# Altium footprint library DC_DC_Converter.PcbLib: 15 footprints
Each footprint in its own frame and in the unit in brackets; x right, y up, seen from the top. Pads: shape width x height; smd on the part's side, far side on the other; paste and mask are expansions set on the pad; w line width, h text height; cw(c..) or ccw(c..) is an arc to the next point about the centre after c.
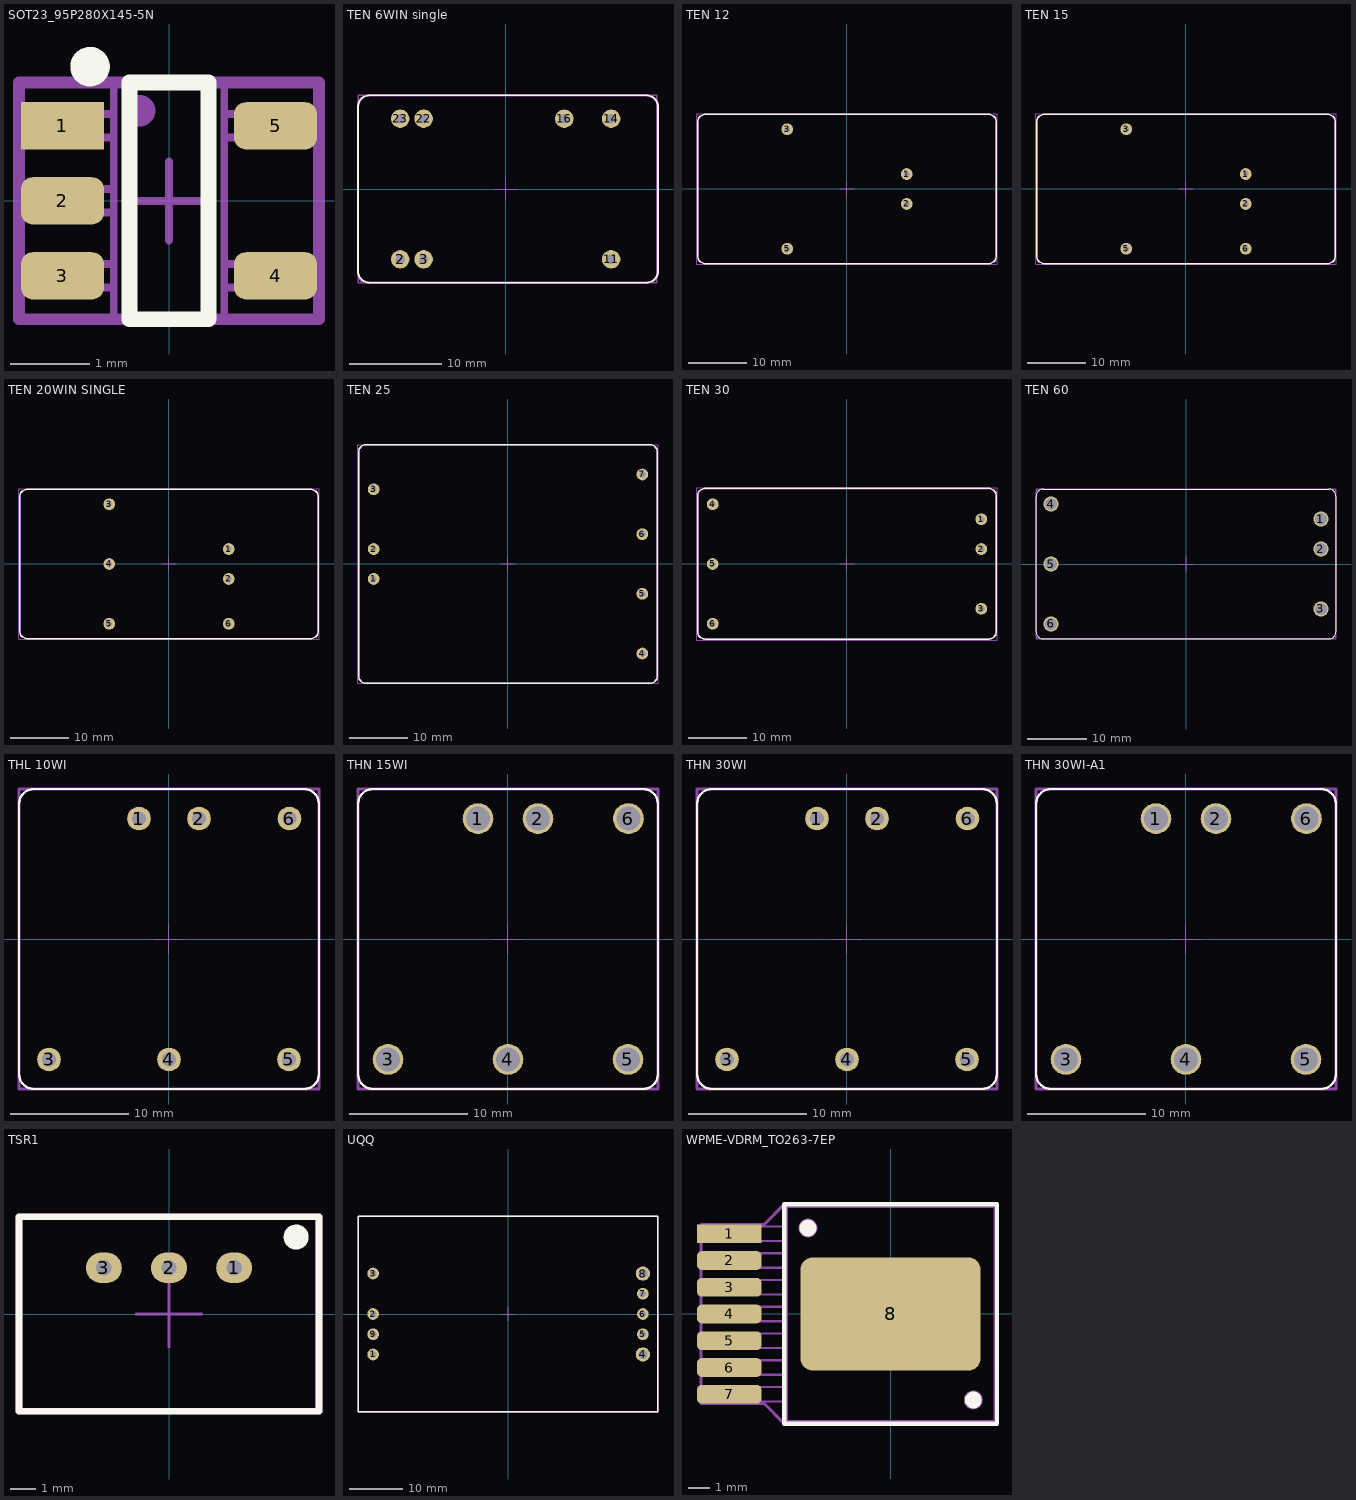
[diagram p0: the footprints below, top view; thin cyan lines are the x and y axes]

## SOT23_95P280X145-5N [mm] "SOT23, 5-Leads, Body 3,1x3,2mm (max), Pitch 0,95mm, IPC Medium Densit"
height 1.45
pads (5):
  rect 1.05x0.6 smd paste-0.05 mask+0.07: 1(-1.35,0.95)
  rrect50% 1.05x0.6 smd paste-0.05 mask+0.07: 2(-1.35,0) 3(-1.35,-0.95) 4(1.35,-0.95) 5(1.35,0.95)
Top Overlay:
  circle w0.25: c-1,1.7 r0.125
  lines w0.2: -0.5,-1.5 0.5,-1.5 0.5,1.5 -0.5,1.5 -0.5,-1.5
Mechanical 13:
  circle w0.2: c-0.374,1.142 r0.1
  lines w0.1: -0.7,-1.1 -1.4,-1.1 -1.4,-0.8 -0.7,-0.8 ; -0.7,-0.15 -1.4,-0.15 -1.4,0.15 -0.7,0.15 ; -0.7,0.8 -1.4,0.8 -1.4,1.1 -0.7,1.1 ; 0.7,-1.1 1.4,-1.1 1.4,-0.8 0.7,-0.8 ; 0.7,0.8 1.4,0.8 1.4,1.1 0.7,1.1 ; -0.7,-1.525 -0.7,1.525 0.7,1.525 0.7,-1.525 -0.7,-1.525
Mechanical 15:
  lines w0.1: -0.5,0 0.5,0 ; 0,-0.5 0,0.5
  lines w0.15: -1.9,-1.5 -1.9,1.5 1.9,1.5 1.9,-1.5 -1.9,-1.5
Mechanical 17:
  text ".Designator" at -0.162,1.046 h1
3D body "SOT23_95P280X145-5N.stp": height 1.45, standoff 0, extent -1.6,-1.55 1.6,1.55

## TEN 6WIN single [mm]
pads (7):
  round 2 hole 1: 2(-11.43,-7.62) 3(-8.89,-7.62) 11(11.43,-7.62) 14(11.43,7.62) 16(6.35,7.62) 22(-8.89,7.62) 23(-11.43,7.62)
Top Overlay:
  lines w0.2: -16.002,8.822 -16.002,-8.885 ccw(c-14.732,-8.885) -14.732,-10.155 15.24,-10.155 ; -16.002,8.89 cw(c-14.732,8.89) -14.732,10.16 15.231,10.16 ; 15.24,-10.16 ccw(c15.24,-8.89) 16.51,-8.89 16.51,8.885 ccw(c15.24,8.885) 15.24,10.155
Mechanical 13:
  lines w0.254: -16.002,-9.144 ccw(c-14.986,-9.144) -14.986,-10.16 15.24,-10.16 ccw(c15.24,-8.89) 16.51,-8.89 16.51,8.89 ccw(c15.24,8.89) 15.24,10.16 -14.732,10.16 ccw(c-14.732,8.89) -16.002,8.89 -16.002,-9.144
Mechanical 15:
  lines w0.1: -1.27,0 1.27,0 ; 0,-1.27 0,1.27
  lines w0.15: -16.002,-10.16 16.383,-10.16 16.383,10.16 -16.002,10.16 -16.002,-10.16
Mechanical 17:
  text ".Designator" at -1.046,-0.162 h2
3D body: height 10.19, standoff 0.1, extent -15.993,-10.151 16.51,10.151
3D body: height 10.2, standoff 10.19, extent -15.622,-9.78 16.12,9.77
3D body: height 1, standoff -5, extent 5.854,7.121 6.85,8.119
3D body: height 1, standoff -5, extent 10.934,7.121 11.93,8.119
3D body: height 1, standoff -5, extent 10.934,-8.119 11.93,-7.121
3D body: height 1, standoff -5, extent -9.386,7.121 -8.39,8.119
3D body: height 1, standoff -5, extent -9.386,-8.119 -8.39,-7.121
3D body: height 1, standoff -5, extent -11.926,7.121 -10.93,8.119
3D body: height 1, standoff -5, extent -11.926,-8.119 -10.93,-7.121

## TEN 12 [mm]
pads (4):
  round 2 hole 1: 1(10.16,2.54) 2(10.16,-2.54) 3(-10.16,10.16) 5(-10.16,-10.16)
Top Overlay:
  lines w0.254: -25.4,-11.43 ccw(c-24.13,-11.43) -24.13,-12.7 24.13,-12.7 ccw(c24.13,-11.43) 25.4,-11.43 25.4,11.43 ccw(c24.13,11.43) 24.13,12.7 -24.13,12.7 ccw(c-24.13,11.43) -25.4,11.43 -25.4,-11.43
Mechanical 13:
  lines w0.254: -25.4,-11.43 ccw(c-24.13,-11.43) -24.13,-12.7 24.13,-12.7 ccw(c24.13,-11.43) 25.4,-11.43 25.4,11.43 ccw(c24.13,11.43) 24.13,12.7 -24.13,12.7 ccw(c-24.13,11.43) -25.4,11.43 -25.4,-11.43
Mechanical 15:
  lines w0.1: -1.27,0 1.27,0 ; 0,-1.27 0,1.27
  lines w0.15: -25.527,-12.827 25.527,-12.827 25.527,12.827 -25.527,12.827 -25.527,-12.827
Mechanical 17:
  text ".Designator" at -1.046,-0.162 h2
3D body: height 1, standoff -5, extent 9.664,-3.039 10.66,-2.041
3D body: height 1, standoff -5, extent -10.656,9.661 -9.66,10.659
3D body: height 1, standoff -5, extent -10.656,-10.659 -9.66,-9.661
3D body: height 1, standoff -5, extent 9.664,2.041 10.66,3.039
3D body: height 10.2, standoff 10.1, extent -24.9,-12.2 24.9,12.2
3D body: height 10.1, standoff 0.1, extent -25.4,-12.7 25.4,12.7

## TEN 15 [mm]
pads (5):
  round 2 hole 1: 1(10.16,2.54) 2(10.16,-2.54) 3(-10.16,10.16) 5(-10.16,-10.16) 6(10.16,-10.16)
Top Overlay:
  lines w0.254: -25.4,-11.43 ccw(c-24.13,-11.43) -24.13,-12.7 24.13,-12.7 ccw(c24.13,-11.43) 25.4,-11.43 25.4,11.43 ccw(c24.13,11.43) 24.13,12.7 -24.13,12.7 ccw(c-24.13,11.43) -25.4,11.43 -25.4,-11.43
Mechanical 13:
  lines w0.254: -25.4,-11.43 ccw(c-24.13,-11.43) -24.13,-12.7 24.13,-12.7 ccw(c24.13,-11.43) 25.4,-11.43 25.4,11.43 ccw(c24.13,11.43) 24.13,12.7 -24.13,12.7 ccw(c-24.13,11.43) -25.4,11.43 -25.4,-11.43
Mechanical 15:
  lines w0.1: -1.27,0 1.27,0 ; 0,-1.27 0,1.27
  lines w0.15: -25.527,-12.827 -25.527,12.827 25.527,12.827 25.527,-12.827 -25.527,-12.827
Mechanical 17:
  text ".Designator" at -1.046,-0.162 h2
3D body: height 1, standoff -5, extent -10.656,-10.659 -9.66,-9.661
3D body: height 1, standoff -5, extent -10.656,9.661 -9.66,10.659
3D body: height 1, standoff -5, extent 9.664,-10.659 10.66,-9.661
3D body: height 1, standoff -5, extent 9.664,-3.039 10.66,-2.041
3D body: height 1, standoff -5, extent 9.664,2.041 10.66,3.039
3D body: height 10.2, standoff 10.1, extent -24.9,-12.2 24.9,12.2
3D body: height 10.1, standoff 0.1, extent -25.4,-12.7 25.4,12.7

## TEN 20WIN SINGLE [mm]
height 10.2
pads (6):
  round 2 hole 1: 1(10.16,2.54) 2(10.16,-2.54) 3(-10.16,10.16) 4(-10.16,0) 5(-10.16,-10.16) 6(10.16,-10.16)
Top Overlay:
  lines w0.254: -25.4,-11.43 ccw(c-24.13,-11.43) -24.13,-12.7 24.13,-12.7 ccw(c24.13,-11.43) 25.4,-11.43 25.4,11.43 ccw(c24.13,11.43) 24.13,12.7 -24.13,12.7 ccw(c-24.13,11.43) -25.4,11.43 -25.4,-11.43
Mechanical 13:
  lines w0.254: -25.4,-11.43 ccw(c-24.13,-11.43) -24.13,-12.7 24.13,-12.7 ccw(c24.13,-11.43) 25.4,-11.43 25.4,11.43 ccw(c24.13,11.43) 24.13,12.7 -24.13,12.7 ccw(c-24.13,11.43) -25.4,11.43 -25.4,-11.43
Mechanical 15:
  lines w0.1: -1.27,0 1.27,0 ; 0,-1.27 0,1.27
  lines w0.15: -25.527,-12.827 25.527,-12.827 25.527,12.827 -25.527,12.827 -25.527,-12.827
Mechanical 17:
  text ".Designator" at -1.046,-0.162 h2
3D body: height 1, standoff -5, extent 9.664,-3.039 10.66,-2.041
3D body: height 1, standoff -5, extent 9.664,2.041 10.66,3.039
3D body: height 1, standoff -5, extent -10.656,-10.659 -9.66,-9.661
3D body: height 1, standoff -5, extent -10.656,9.661 -9.66,10.659
3D body: height 1, standoff -5, extent 9.664,-10.659 10.66,-9.661
3D body: height 10.19, standoff 0.1, extent -25.4,-12.7 25.4,12.7
3D body: height 10.2, standoff 10.19, extent -24.763,-12.074 24.883,12.183

## TEN 25 [mm]
height 9.5
pads (7):
  round 2 hole 1: 1(-22.86,-2.54) 2(-22.86,2.54) 3(-22.86,12.7) 4(22.86,-15.24) 5(22.86,-5.08) 6(22.86,5.08) 7(22.86,15.24)
Top Overlay:
  lines w0.254: -25.4,-19.05 ccw(c-24.13,-19.05) -24.13,-20.32 24.13,-20.32 ccw(c24.13,-19.05) 25.4,-19.05 25.4,19.05 ccw(c24.13,19.05) 24.13,20.32 -24.13,20.32 ccw(c-24.13,19.05) -25.4,19.05 -25.4,-19.05
Mechanical 13:
  lines w0.254: -25.4,-19.05 ccw(c-24.13,-19.05) -24.13,-20.32 24.13,-20.32 ccw(c24.13,-19.05) 25.4,-19.05 25.4,19.05 ccw(c24.13,19.05) 24.13,20.32 -24.13,20.32 ccw(c-24.13,19.05) -25.4,19.05 -25.4,-19.05
Mechanical 15:
  lines w0.1: -1.27,0 1.27,0 ; 0,-1.27 0,1.27
  lines w0.15: -25.527,-20.32 -25.527,20.32 25.527,20.32 25.527,-20.32 -25.527,-20.32
Mechanical 17:
  text ".Designator" at -1.046,-0.162 h2
3D body: height 1, standoff -5, extent -23.356,12.201 -22.36,13.199
3D body: height 1, standoff -5, extent 22.364,-15.739 23.36,-14.741
3D body: height 1, standoff -5, extent 22.364,14.741 23.36,15.739
3D body: height 1, standoff -5, extent -23.356,-3.039 -22.36,-2.041
3D body: height 1, standoff -5, extent 22.364,-5.579 23.36,-4.581
3D body: height 1, standoff -5, extent 22.364,4.581 23.36,5.579
3D body: height 1, standoff -5, extent -23.356,2.041 -22.36,3.039
3D body: height 10.19, standoff 0.1, extent -25.4,-20.325 25.403,20.319
3D body: height 10.2, standoff 10.19, extent -24.821,-19.655 24.733,19.51

## TEN 30 [mm]
height 10.2
pads (6):
  round 2 hole 1: 1(22.86,7.62) 2(22.86,2.54) 3(22.86,-7.62) 4(-22.86,10.16) 5(-22.86,0) 6(-22.86,-10.16)
Top Overlay:
  lines w0.254: -25.413,-11.506 ccw(c-24.143,-11.506) -24.143,-12.776 -24.054,-12.776 24.054,-12.776 24.117,-12.776 ccw(c24.117,-11.506) 25.387,-11.506 25.387,-11.443 25.387,11.443 25.387,11.608 ccw(c24.117,11.608) 24.117,12.878 23.952,12.878 -23.952,12.878 -24.143,12.878 ccw(c-24.143,11.608) -25.413,11.608 -25.413,11.417 -25.413,-11.417 -25.413,-11.506
Mechanical 13:
  lines w0.254: -25.4,-11.557 ccw(c-24.13,-11.557) -24.13,-12.827 -24.003,-12.827 24.003,-12.827 24.13,-12.827 ccw(c24.13,-11.557) 25.4,-11.557 25.4,-11.43 25.4,11.43 25.4,11.557 ccw(c24.13,11.557) 24.13,12.827 24.003,12.827 -24.003,12.827 -24.13,12.827 ccw(c-24.13,11.557) -25.4,11.557 -25.4,11.43 -25.4,-11.43 -25.4,-11.557
Mechanical 15:
  lines w0.1: -1.27,0 1.27,0 ; 0,-1.27 0,1.27
  lines w0.15: -25.527,-12.954 -25.527,12.954 25.527,12.954 25.527,-12.954 -25.527,-12.954
Mechanical 17:
  text ".Designator" at -1.046,-0.162 h2
3D body "TRACOPOWER - TEN 30.step": height 10.3, standoff -5.5, extent -25.4,-12.85 25.4,12.85

## TEN 60 [mm]
height 10.2
pads (6):
  round 2.6 hole 2: 1(22.86,7.62) 2(22.86,2.54) 3(22.86,-7.62) 4(-22.86,10.16) 5(-22.86,0) 6(-22.86,-10.16)
Top Overlay:
  lines w0.2: -25.4,-11.425 ccw(c-24.13,-11.425) -24.13,-12.695 24.13,-12.695 ccw(c24.13,-11.425) 25.4,-11.425 25.4,11.425 ccw(c24.13,11.425) 24.13,12.695 -24.13,12.695 ccw(c-24.13,11.425) -25.4,11.425 -25.4,-11.425
Mechanical 13:
  lines w0.254: 25.4,11.43 25.4,11.557 ; -25.4,-12.7 25.4,-12.7 25.4,12.7 -25.4,12.7 -25.4,-12.7
Mechanical 15:
  lines w0.1: -1.27,0 1.27,0 ; 0,-1.27 0,1.27
  lines w0.15: -25.4,-12.7 25.4,-12.7 25.4,12.7 -25.4,12.7 -25.4,-12.7
Mechanical 17:
  text ".Designator" at -1.046,-0.162 h2
3D body: height 10.2, standoff 10.1, extent -24.9,-12.2 24.9,12.2
3D body: height 10.1, standoff 0.1, extent -25.4,-12.7 25.4,12.7
3D body: height 1, standoff -5, extent -23.356,9.661 -22.36,10.659
3D body: height 1, standoff -5, extent -23.356,-0.499 -22.36,0.499
3D body: height 1, standoff -5, extent -23.356,-10.659 -22.36,-9.661
3D body: height 1, standoff -5, extent 22.364,-8.119 23.36,-7.121
3D body: height 1, standoff -5, extent 22.364,7.121 23.36,8.119
3D body: height 1, standoff -5, extent 22.364,2.041 23.36,3.039

## THL 10WI [mm]
height 9.9
pads (6):
  round 2 hole 1.2: 1(-2.54,10.2) 2(2.54,10.2) 3(-10.16,-10.2) 4(0,-10.2) 5(10.16,-10.2) 6(10.2,10.2)
Top Overlay:
  lines w0.2: -12.7,-11.425 -12.7,11.425 cw(c-11.43,11.425) -11.43,12.695 ; -12.695,-11.43 ccw(c-11.425,-11.43) -11.425,-12.7 11.425,-12.7 ; -11.425,12.7 11.425,12.7 cw(c11.425,11.43) 12.695,11.43 ; 11.43,-12.695 ccw(c11.43,-11.425) 12.7,-11.425 12.7,11.425
Mechanical 13:
  lines w0.254: 12.7,-12.7 12.7,12.7 ; 12.7,-12.7 12.7,12.7 ; 12.7,-12.7 -12.7,-12.7 -12.7,12.7 12.7,12.7 ; 12.7,-12.7 12.7,12.7
Mechanical 15:
  lines w0.1: -1.27,0 1.27,0 ; 0,-1.27 0,1.27
  lines w0.15: -12.7,-12.7 -12.7,12.7 12.7,12.7 12.7,-12.7 -12.7,-12.7
Mechanical 17:
  text ".Designator" at -1.046,-0.162 h2
3D body: height 9.9, standoff 9.8, extent -12.2,-12.2 12.2,12.2
3D body: height 9.8, standoff 0.1, extent -12.7,-12.7 12.7,12.7
3D body: height 1, standoff -5, extent 9.664,-10.699 10.66,-9.701
3D body: height 1, standoff -5, extent -10.656,-10.699 -9.66,-9.701
3D body: height 1, standoff -5, extent 9.704,9.701 10.7,10.699
3D body: height 1, standoff -5, extent 2.044,9.701 3.04,10.699
3D body: height 1, standoff -5, extent -0.496,-10.699 0.5,-9.701
3D body: height 1, standoff -5, extent -3.036,9.701 -2.04,10.699

## THN 15WI [mm]
height 9.9
pads (6):
  round 2.6 hole 2: 1(-2.54,10.2) 2(2.54,10.2) 3(-10.16,-10.2) 4(0,-10.2) 5(10.16,-10.2) 6(10.2,10.2)
Top Overlay:
  lines w0.2: -12.7,-11.425 -12.7,11.425 cw(c-11.43,11.425) -11.43,12.695 ; -12.695,-11.43 ccw(c-11.425,-11.43) -11.425,-12.7 11.425,-12.7 ; -11.425,12.7 11.425,12.7 cw(c11.425,11.43) 12.695,11.43 ; 11.43,-12.695 ccw(c11.43,-11.425) 12.7,-11.425 12.7,11.425
Mechanical 13:
  lines w0.254: 12.7,-12.7 12.7,12.7 ; 12.7,-12.7 -12.7,-12.7 -12.7,12.7 12.7,12.7 ; 12.7,-12.7 12.7,12.7 ; 12.7,-12.7 12.7,12.7
Mechanical 15:
  lines w0.1: -1.27,0 1.27,0 ; 0,-1.27 0,1.27
  lines w0.15: -12.7,-12.7 12.7,-12.7 12.7,12.7 -12.7,12.7 -12.7,-12.7
Mechanical 17:
  text ".Designator" at -1.046,-0.162 h2
3D body: height 1, standoff -5, extent -3.036,9.701 -2.04,10.699
3D body: height 1, standoff -5, extent -0.496,-10.699 0.5,-9.701
3D body: height 1, standoff -5, extent 2.044,9.701 3.04,10.699
3D body: height 1, standoff -5, extent 9.704,9.701 10.7,10.699
3D body: height 1, standoff -5, extent -10.656,-10.699 -9.66,-9.701
3D body: height 1, standoff -5, extent 9.664,-10.699 10.66,-9.701
3D body: height 9.9, standoff 9.8, extent -12.2,-12.2 12.2,12.2
3D body: height 9.8, standoff 0.1, extent -12.7,-12.7 12.7,12.7

## THN 30WI [mm]
height 9.9
pads (6):
  round 2 hole 1.2: 1(-2.54,10.2) 2(2.54,10.2) 3(-10.16,-10.2) 4(0,-10.2) 5(10.16,-10.2) 6(10.2,10.2)
Top Overlay:
  lines w0.2: -12.7,-11.425 -12.7,11.425 cw(c-11.43,11.425) -11.43,12.695 ; -12.695,-11.43 ccw(c-11.425,-11.43) -11.425,-12.7 11.425,-12.7 ; -11.425,12.7 11.425,12.7 cw(c11.425,11.43) 12.695,11.43 ; 11.43,-12.695 ccw(c11.43,-11.425) 12.7,-11.425 12.7,11.425
Mechanical 13:
  lines w0.254: 12.7,-12.7 12.7,12.7 ; 12.7,-12.7 12.7,12.7 ; 12.7,-12.7 -12.7,-12.7 -12.7,12.7 12.7,12.7 ; 12.7,-12.7 12.7,12.7
Mechanical 15:
  lines w0.1: -1.27,0 1.27,0 ; 0,-1.27 0,1.27
  lines w0.15: -12.7,-12.7 -12.7,12.7 12.7,12.7 12.7,-12.7 -12.7,-12.7
Mechanical 17:
  text ".Designator" at -1.046,-0.162 h2
3D body: height 9.8, standoff 0.1, extent -12.7,-12.7 12.7,12.7
3D body: height 9.9, standoff 9.8, extent -12.2,-12.2 12.2,12.2
3D body: height 1, standoff -5, extent 9.664,-10.699 10.66,-9.701
3D body: height 1, standoff -5, extent -10.656,-10.699 -9.66,-9.701
3D body: height 1, standoff -5, extent 9.704,9.701 10.7,10.699
3D body: height 1, standoff -5, extent 2.044,9.701 3.04,10.699
3D body: height 1, standoff -5, extent -0.496,-10.699 0.5,-9.701
3D body: height 1, standoff -5, extent -3.036,9.701 -2.04,10.699

## THN 30WI-A1 [mm]
height 9.9
pads (6):
  round 2.6 hole 2: 1(-2.54,10.2) 2(2.54,10.2) 3(-10.16,-10.2) 4(0,-10.2) 5(10.16,-10.2) 6(10.2,10.2)
Top Overlay:
  lines w0.2: -12.7,-11.425 -12.7,11.425 cw(c-11.43,11.425) -11.43,12.695 ; -12.695,-11.43 ccw(c-11.425,-11.43) -11.425,-12.7 11.425,-12.7 ; -11.425,12.7 11.425,12.7 cw(c11.425,11.43) 12.695,11.43 ; 11.43,-12.695 ccw(c11.43,-11.425) 12.7,-11.425 12.7,11.425
Mechanical 13:
  lines w0.254: 12.7,-12.7 12.7,12.7 ; 12.7,-12.7 12.7,12.7 ; 12.7,-12.7 -12.7,-12.7 -12.7,12.7 12.7,12.7 ; 12.7,-12.7 12.7,12.7
Mechanical 15:
  lines w0.1: -1.27,0 1.27,0 ; 0,-1.27 0,1.27
  lines w0.15: -12.7,-12.7 -12.7,12.7 12.7,12.7 12.7,-12.7 -12.7,-12.7
Mechanical 17:
  text ".Designator" at -1.046,-0.162 h2
3D body: height 1, standoff -5, extent 9.664,-10.699 10.66,-9.701
3D body: height 1, standoff -5, extent -10.656,-10.699 -9.66,-9.701
3D body: height 1, standoff -5, extent 9.704,9.701 10.7,10.699
3D body: height 1, standoff -5, extent 2.044,9.701 3.04,10.699
3D body: height 1, standoff -5, extent -0.496,-10.699 0.5,-9.701
3D body: height 9.8, standoff 0.1, extent -12.7,-12.7 12.7,12.7
3D body: height 1, standoff -5, extent -3.036,9.701 -2.04,10.699
3D body: height 9.9, standoff 9.8, extent -12.2,-12.2 12.2,12.2

## TSR1 [mm]
height 10.2
pads (3):
  oval 1.4x1.2 hole 0.6: 1(2.54,1.8) 2(0,1.8) 3(-2.54,1.8)
Top Overlay:
  circle w0.5: c4.96,3 r0.24
  lines w0.254: -5.85,-3.8 5.85,-3.8 5.85,3.8 -5.85,3.8 -5.85,-3.8
Mechanical 13:
  lines w0.254: -5.85,-3.8 -5.85,3.8 5.85,3.8 5.85,-3.8 -5.85,-3.8
Mechanical 15:
  lines w0.1: -1.27,0 1.27,0 ; 0,-1.27 0,1.27
  lines w0.15: -5.85,-3.8 5.85,-3.8 5.85,3.8 -5.85,3.8 -5.85,-3.8
Mechanical 17:
  text ".Designator" at -1.046,-0.162 h1.5
3D body: height 0.5, standoff 0, extent -5.85,-3.8 -5.4,3.8
3D body: height 0.5, standoff 0, extent 5.4,-3.8 5.85,3.8
3D body: height 10.2, standoff 0.5, extent -5.85,-3.8 5.85,3.8

## UQQ [mm]
height 10.9
pads (9):
  round 2.2 hole 1.2: 1(-25.4,-7.62) 2(-25.4,0) 3(-25.4,7.62) 5(25.4,-3.81) 6(25.4,0) 7(25.4,3.81) 9(-25.4,-3.81)
  round 2.7 hole 1.7: 4(25.4,-7.62) 8(25.4,7.62)
Top Overlay:
  lines w0.254: -28.2,-18.4 28.2,-18.4 28.2,18.4 -28.2,18.4 -28.2,-18.4
Mechanical 13:
  lines w0.254: -28.2,-18.4 28.2,-18.4 28.2,18.4 -28.2,18.4 -28.2,-18.4
Mechanical 15:
  lines w0.1: -1.27,0 1.27,0 ; 0,-1.27 0,1.27
  lines w0.15: -28.25,-18.5 -28.25,18.5 28.25,18.5 28.25,-18.5 -28.25,-18.5
Mechanical 17:
  text ".Designator" at -1.046,-0.162 h2
3D body: height 1, standoff -4.76, extent -25.896,7.121 -24.9,8.119
3D body: height 1, standoff -4.76, extent -25.896,-0.499 -24.9,0.499
3D body: height 1, standoff -4.76, extent -25.896,-4.309 -24.9,-3.311
3D body: height 1, standoff -4.76, extent -25.896,-8.119 -24.9,-7.121
3D body: height 1, standoff -4.76, extent 24.904,-4.309 25.9,-3.311
3D body: height 1, standoff -4.76, extent 24.904,-0.499 25.9,0.499
3D body: height 1, standoff -4.76, extent 24.904,3.311 25.9,4.309
3D body: height 1, standoff -4.76, extent 24.606,6.822 26.2,8.419
3D body: height 1, standoff -4.76, extent 24.606,-8.418 26.2,-6.821
3D body: height 12.7, standoff 0.25, extent -28.275,-18.477 28.113,18.315

## WPME-VDRM_TO263-7EP [mm] "9.85x10.16"
height 4.57
pads (8):
  rect 3.06x0.89 smd: 1(-7.66,3.81)
  rrect50% 3.06x0.89 smd: 2(-7.66,2.54) 3(-7.66,1.27) 4(-7.66,0) 5(-7.66,-1.27) 6(-7.66,-2.54) 7(-7.66,-3.81)
  rrect20% 8.54x5.35 smd paste-10: 8(0,0)
Top Overlay:
  circle w0.4: c-3.925,4.08 r0.2
  circle w0.4: c3.925,-4.08 r0.2
  lines w0.2: -5.05,-5.205 -5.05,5.205 5.05,5.205 5.05,-5.205 -5.05,-5.205
Top Paste:
  region: -3.925,-1.39 -2.975,-1.39 -2.975,-2.48 -3.925,-2.48
  region: -2.775,-1.39 -1.825,-1.39 -1.825,-2.48 -2.775,-2.48
  region: -1.625,-1.39 -0.675,-1.39 -0.675,-2.48 -1.625,-2.48
  region: -0.475,-1.39 0.475,-1.39 0.475,-2.48 -0.475,-2.48
  region: 0.675,-1.39 1.625,-1.39 1.625,-2.48 0.675,-2.48
  region: 1.825,-1.39 2.775,-1.39 2.775,-2.48 1.825,-2.48
  region: 2.975,-1.39 3.925,-1.39 3.925,-2.48 2.975,-2.48
  region: -3.925,-0.1 -2.975,-0.1 -2.975,-1.19 -3.925,-1.19
  region: -2.775,-0.1 -1.825,-0.1 -1.825,-1.19 -2.775,-1.19
  region: -1.625,-0.1 -0.675,-0.1 -0.675,-1.19 -1.625,-1.19
  region: -0.475,-0.1 0.475,-0.1 0.475,-1.19 -0.475,-1.19
  region: 0.675,-0.1 1.625,-0.1 1.625,-1.19 0.675,-1.19
  region: 1.825,-0.1 2.775,-0.1 2.775,-1.19 1.825,-1.19
  region: 2.975,-0.1 3.925,-0.1 3.925,-1.19 2.975,-1.19
  region: -3.925,1.19 -2.975,1.19 -2.975,0.1 -3.925,0.1
  region: -2.775,1.19 -1.825,1.19 -1.825,0.1 -2.775,0.1
  region: -1.625,1.19 -0.675,1.19 -0.675,0.1 -1.625,0.1
  region: -0.475,1.19 0.475,1.19 0.475,0.1 -0.475,0.1
  region: 0.675,1.19 1.625,1.19 1.625,0.1 0.675,0.1
  region: 1.825,1.19 2.775,1.19 2.775,0.1 1.825,0.1
  region: 2.975,1.19 3.925,1.19 3.925,0.1 2.975,0.1
  region: 2.975,2.48 3.925,2.48 3.925,1.39 2.975,1.39
  region: 1.825,2.48 2.775,2.48 2.775,1.39 1.825,1.39
  region: 0.675,2.48 1.625,2.48 1.625,1.39 0.675,1.39
  region: -0.475,2.48 0.475,2.48 0.475,1.39 -0.475,1.39
  region: -1.625,2.48 -0.675,2.48 -0.675,1.39 -1.625,1.39
  region: -2.775,2.48 -1.825,2.48 -1.825,1.39 -2.775,1.39
  region: -3.925,2.48 -2.975,2.48 -2.975,1.39 -3.925,1.39
Mechanical 13:
  circle w0.1: c3.925,-4.08 r0.4
  circle w0.1: c-3.925,4.08 r0.4
  lines w0.1: -4.925,-4.155 -8.845,-4.155 -8.845,-3.465 -4.925,-3.465 ; -4.925,-2.885 -8.845,-2.885 -8.845,-2.195 -4.925,-2.195 ; -4.925,-1.615 -8.845,-1.615 -8.845,-0.925 -4.925,-0.925 ; -4.925,-0.345 -8.845,-0.345 -8.845,0.345 -4.925,0.345 ; -4.925,0.925 -8.845,0.925 -8.845,1.615 -4.925,1.615 ; -4.925,2.195 -8.845,2.195 -8.845,2.885 -4.925,2.885 ; -4.925,3.465 -8.845,3.465 -8.845,4.155 -4.925,4.155 ; -4.925,-5.08 4.925,-5.08 4.925,5.08 -4.925,5.08 -4.925,-5.08
Mechanical 15:
  lines w0.1: -0.5,0 0.5,0 ; 0,-0.5 0,0.5
  lines w0.15: -9,-4.25 -6,-4.25 -5,-5.25 5,-5.25 5,5.25 -5,5.25 -6,4.25 -9,4.25 -9,-4.25
Mechanical 17:
  text ".Designator" at -2,-1 h3
3D body "STEP-MAGIC-VDRM-TO263-7EP-rev1.stp": height 4.77, standoff 0, extent -8.845,-5.08 4.925,5.08